# EAGLE library part LED-DRIVER-10CH-LM3914 (library FlashPCB_ICs)
LM3914 - IC DRVR DOT/BAR DISPLAY 20PLCC Technical Specifications: LED, LCD, Vacuum Fluorescent (VF) Driver 20-PLCC (9x9) 10-Step LED Driver suitable for LEDs, LCDs, or Vacuum Fluorescents Supply Voltage: 3V~20V Supply Current: 6.1mA Component Search: LM3914 <https://www.flashpcb.com/components> Datasheet: LM3914 Dot/Bar Display Driver datasheet (Rev. B) <https://www.ti.com/lit/ds/symlink/lm3914.pdf>
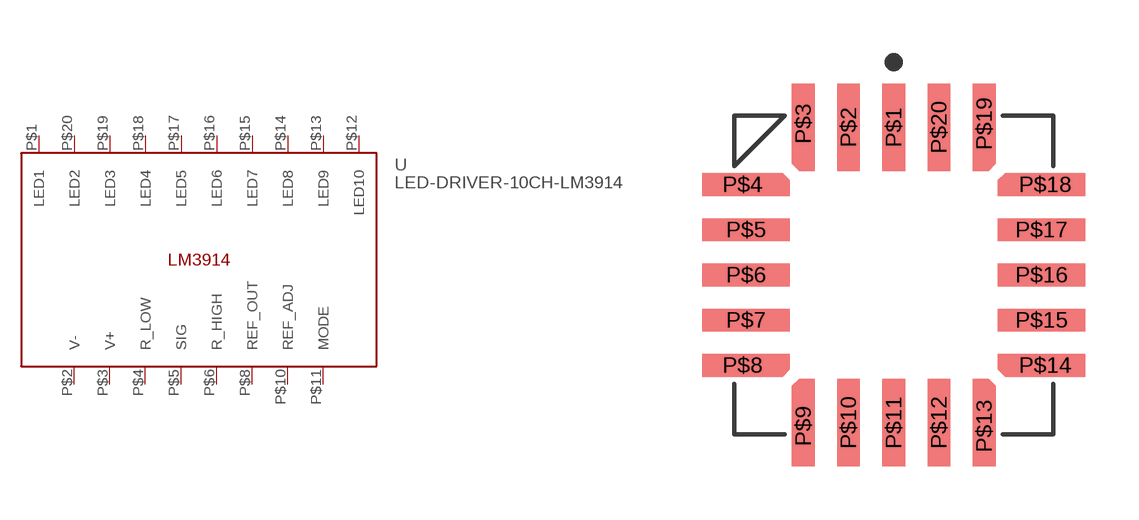
[diagram p52: symbol with the pads of 20-PLCC(9X9); footprint 20-PLCC(9X9)]

Designator prefix U

## LED-DRIVER-10CH-LM3914  [20-PLCC(9X9)]
P$1  LED1
P$2  V-
P$3  V+
P$4  R_LOW
P$5  SIG
P$6  R_HIGH
P$8  REF_OUT
P$10  REF_ADJ
P$11  MODE
P$12  LED10
P$13  LED9
P$14  LED8
P$15  LED7
P$16  LED6
P$17  LED5
P$18  LED4
P$19  LED3
P$20  LED2

## Footprint 20-PLCC(9X9) (pad centres in mm)
smd 0.64 x 2.45: P$1 0,4.15; P$2 -1.27,4.15; P$10 -1.27,-4.15; P$11 0,-4.15; P$12 1.27,-4.15; P$20 1.27,4.15
smd 0.64 x 2.25: P$3 -2.54,4.25; P$9 -2.54,-4.25; P$13 2.54,-4.25; P$19 2.54,4.25
smd 2.25 x 0.64: P$4 -4.25,2.54; P$8 -4.25,-2.54; P$14 4.25,-2.54; P$18 4.25,2.54
smd 2.45 x 0.64: P$5 -4.15,1.27; P$6 -4.15,0; P$7 -4.15,-1.27; P$15 4.15,-1.27; P$16 4.15,0; P$17 4.15,1.27